# Altium footprint library 4235.88-1.PcbLib: 1 footprints
Each footprint in its own frame and in the unit in brackets; x right, y up, seen from the top. Pads: shape width x height; smd on the part's side, far side on the other; paste and mask are expansions set on the pad; w line width, h text height; cw(c..) or ccw(c..) is an arc to the next point about the centre after c.
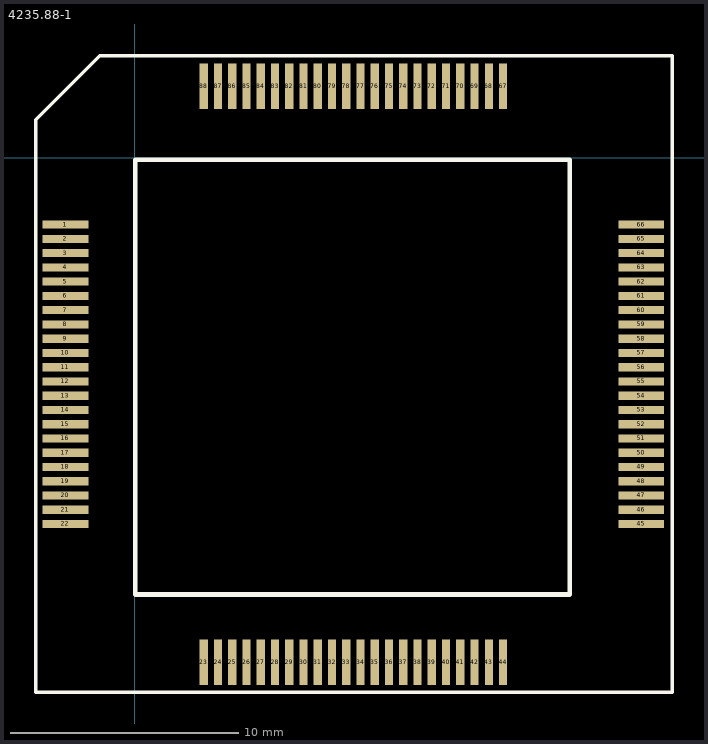
[diagram p0: the footprint, top view; thin cyan lines are the x and y axes]

## 4235.88-1 [mm]
pads (88):
  rect 2x0.36 smd mask+0.051: 1(-3.048,-2.921) 2(-3.048,-3.546) 3(-3.048,-4.171) 4(-3.048,-4.796) 5(-3.048,-5.421) 6(-3.048,-6.046) 7(-3.048,-6.671) 8(-3.048,-7.296) 9(-3.048,-7.921) 10(-3.048,-8.546) 11(-3.048,-9.171) 12(-3.048,-9.796) 13(-3.048,-10.421) 14(-3.048,-11.046) 15(-3.048,-11.671) 16(-3.048,-12.296) 17(-3.048,-12.921) 18(-3.048,-13.546) 19(-3.048,-14.171) 20(-3.048,-14.796) 21(-3.048,-15.421) 22(-3.048,-16.046) 45(22.202,-16.046) 46(22.202,-15.421) 47(22.202,-14.796) 48(22.202,-14.171) 49(22.202,-13.546) 50(22.202,-12.921) 51(22.202,-12.296) 52(22.202,-11.671) 53(22.202,-11.046) 54(22.202,-10.421) 55(22.202,-9.796) 56(22.202,-9.171) 57(22.202,-8.546) 58(22.202,-7.921) 59(22.202,-7.296) 60(22.202,-6.671) 61(22.202,-6.046) 62(22.202,-5.421) 63(22.202,-4.796) 64(22.202,-4.171) 65(22.202,-3.546) 66(22.202,-2.921)
  rect 0.36x2 smd mask+0.051: 23(3.014,-22.109) 24(3.639,-22.109) 25(4.264,-22.109) 26(4.889,-22.109) 27(5.515,-22.109) 28(6.14,-22.109) 29(6.765,-22.109) 30(7.39,-22.109) 31(8.015,-22.109) 32(8.64,-22.109) 33(9.265,-22.109) 34(9.89,-22.109) 35(10.515,-22.109) 36(11.14,-22.109) 37(11.765,-22.109) 38(12.39,-22.109) 39(13.015,-22.109) 40(13.64,-22.109) 41(14.265,-22.109) 42(14.89,-22.109) 43(15.515,-22.109) 44(16.14,-22.109) 67(16.14,3.141) 68(15.515,3.141) 69(14.89,3.141) 70(14.265,3.141) 71(13.64,3.141) 72(13.015,3.141) 73(12.39,3.141) 74(11.765,3.141) 75(11.14,3.141) 76(10.515,3.141) 77(9.89,3.141) 78(9.265,3.141) 79(8.64,3.141) 80(8.015,3.141) 81(7.39,3.141) 82(6.765,3.141) 83(6.14,3.141) 84(5.515,3.141) 85(4.889,3.141) 86(4.264,3.141) 87(3.639,3.141) 88(3.014,3.141)
Top Overlay:
  lines w0.152: -4.348,-23.421 23.552,-23.421 23.552,4.479 -1.548,4.479 -4.348,1.679 -4.348,-23.421
  lines w0.2: 0.003,-19.138 0.003,-0.083 19.058,-0.083 19.058,-19.138 0.003,-19.138
3D body: height 3.1, standoff 0, extent 0,-19.05 19.05,0